# Altium schematic symbol library LMX9838SB.SchLib: 1 symbol
Pins are listed as number, name and electrical type; pins without a type are passive.

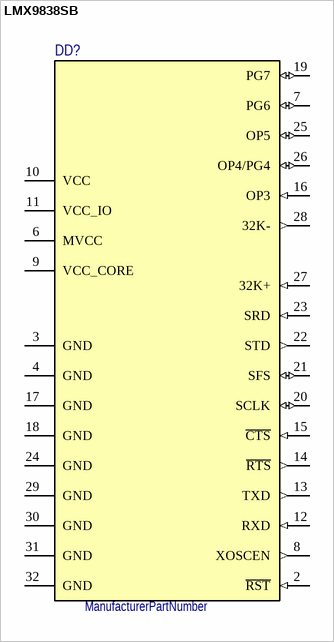
[diagram p0: symbol LMX9838SB]

## LMX9838SB
designator DD?  (value not drawn)
ManufacturerPartNumber: ManufacturerPartNumber
pins: 2 ~{RST} (in), 3 GND (power), 4 GND (power), 6 MVCC (power), 7 PG6 (io), 8 XOSCEN (out), 9 VCC_CORE (power), 10 VCC (power), 11 VCC_IO (power), 12 RXD (in), 13 TXD (out), 14 ~{RTS} (out), 15 ~{CTS} (in), 16 OP3 (in), 17 GND (power), 18 GND (power), 19 PG7 (io), 20 SCLK (io), 21 SFS (io), 22 STD (out), 23 SRD (in), 24 GND (power), 25 OP5 (io), 26 OP4/PG4 (io), 27 32K+ (in), 28 32K- (out), 29 GND (power), 30 GND (power), 31 GND (power), 32 GND (power)